# Altium schematic symbol library Other.SchLib: 6 symbols
Pins are listed as number, name and electrical type; pins without a type are passive.

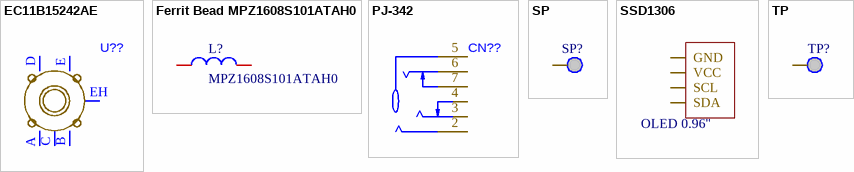
[diagram p0: symbols EC11B15242AE to TP]

## EC11B15242AE
designator U??
Through Hole DIP Switches/SIP Switches RoHS; Manufacturer: ALPSALPINE; Mfr. Part #: EC11B15242AE; LCSC Part #: C2830185; Package: Through Hole; Link: https://www.lcsc.com/product-detail/C2830185.html?s_z=n_ec11b
footprint EC11B15242AE (Through Hole DIP Switches/SIP Switches RoHS)
pins: A, B, C, D, E, EH

## Ferrit Bead MPZ1608S101ATAH0
designator L?, comment MPZ1608S101ATAH0
30mΩ ±25% 100Ω@100MHz 0603 Ferrite Beads ROHS; Manufacturer: TDK; Current Rating: 3A; Mfr. Part #: MPZ1608S101ATAH0; LCSC Part #: C107332; Package: 0603; Tolerance: ±25%; Link: https://www.lcsc.com/product-detail/C107332.html?s_z=n_mpz1608s101atah0; DC Resistance(DCR): 30mΩ; Impedance @ Frequency: 100Ω@100MHz
pins: 7, 8

## PJ-342
designator CN??
3.5mm Headphone Jack 0.5A 30V Surface Mount; Manufacturer: SHOU HAN; Mfr. Part #: PJ-342; Key Attributes: CONN JACK STEREO 3.5mm SMD; LCSC Part #: C668606; Package: SMD; Link: https://www.lcsc.com/product-detail/C668606.html
footprint AUDIO-SMD_PJ-342 (3.5mm Headphone Jack 0.5A 30V Surface Mount)
pins: 2, 3, 4, 5, 6, 7

## SP
designator SP?  (value not drawn)
footprint SP
pins: 1

## SSD1306
designator S?, comment OLED 0.96''
footprint SSD1306
footprint SSD1306-up
pins: GND, SCL, SDA, VCC

## TP
designator TP?
footprint TP
pins: 1